# Altium schematic symbol library MOSFET BSC0921NDI.Schlib: 1 symbol
Pins are listed as number, name and electrical type; pins without a type are passive.

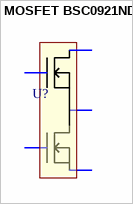
[diagram p0: symbol MOSFET BSC0921NDI]

## MOSFET BSC0921NDI
designator U?
MOSFET N+N 30V 17A
pins: D1, G1, G2, S1D2, S2